# Altium integrated library Molex-DuraClik.IntLib: 28 symbols
Pins are listed as number, name and electrical type; pins without a type are passive.

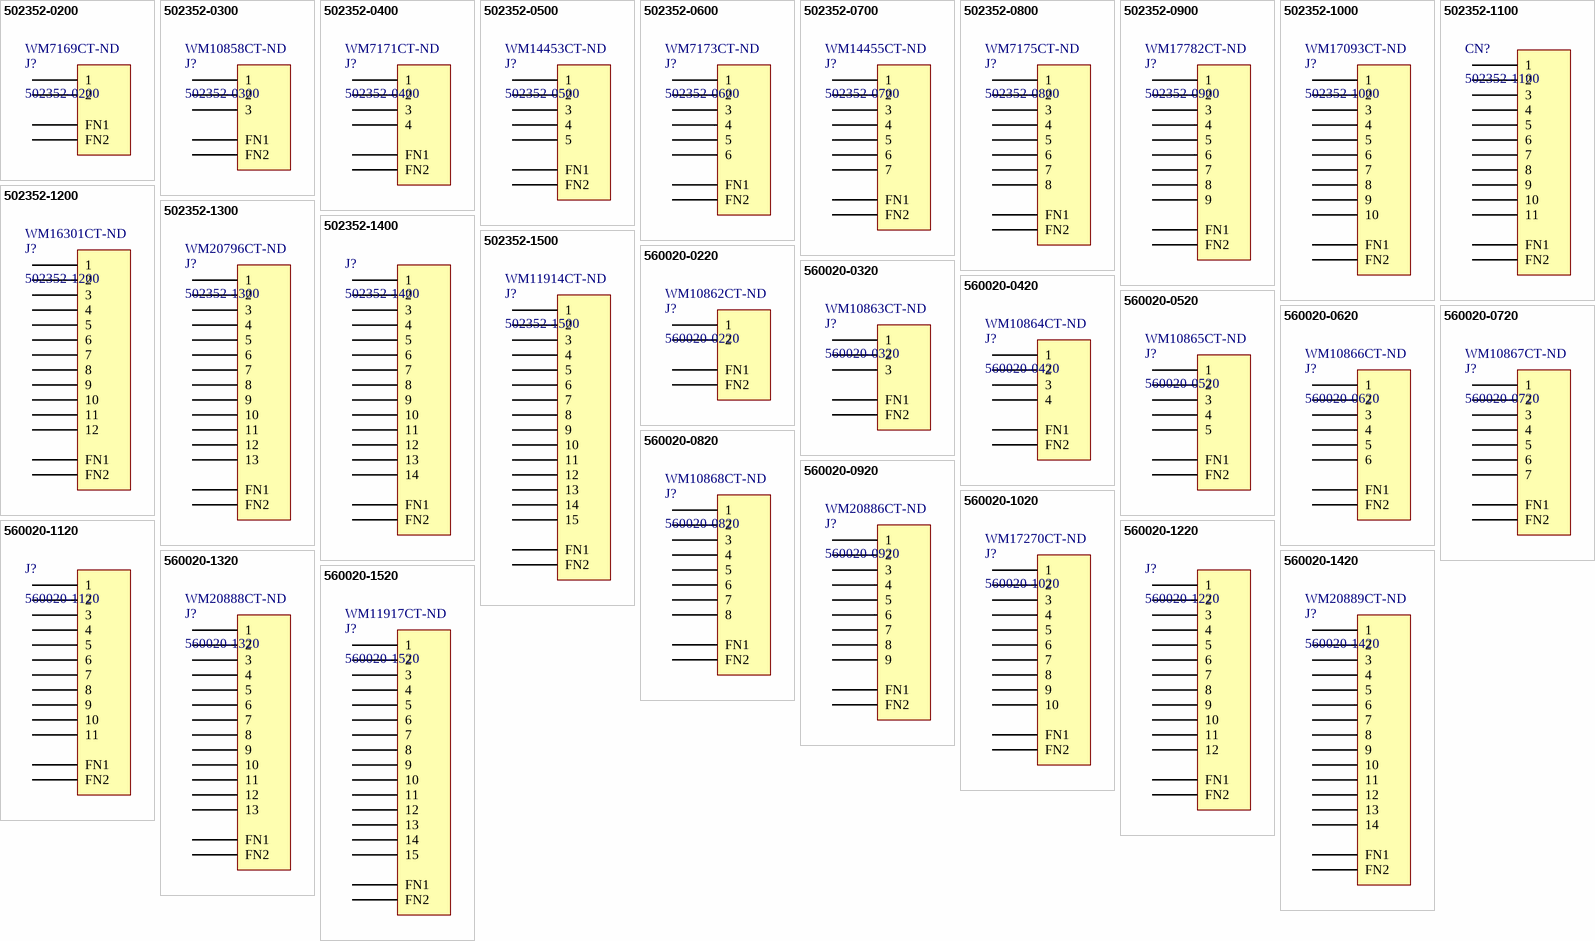
[diagram p0: symbols 502352-0200 to 560020-1520]

## 502352-0200
designator J?  Supplier Part Number 1: WM7169CT-ND
DuraClik Wire-to-Board Header, Single Row, Right-Angle, 2 Circuits, Tin (Sn) Plating, Natural; Supplier 1: Digi-Key
footprint 502352-0200
pins: 1, 2, FN1, FN2

## 502352-0300
designator J?  Supplier Part Number 1: WM10858CT-ND
DuraClik Wire-to-Board Header, Single Row, Right-Angle, 3 Circuits, Tin (Sn) Plating, Natural; Supplier 1: Digi-Key
footprint 502352-0300
pins: 1, 2, 3, FN1, FN2

## 502352-0400
designator J?  Supplier Part Number 1: WM7171CT-ND
DuraClik Wire-to-Board Header, Single Row, Right-Angle, 4 Circuits, Tin (Sn) Plating, Natural; Supplier 1: Digi-Key
footprint 502352-0400
pins: 1, 2, 3, 4, FN1, FN2

## 502352-0500
designator J?  Supplier Part Number 1: WM14453CT-ND
DuraClik Wire-to-Board Header, Single Row, Right-Angle, 5 Circuits, Tin (Sn) Plating, Natural; Supplier 1: Digi-Key
footprint 502352-0500
pins: 1, 2, 3, 4, 5, FN1, FN2

## 502352-0600
designator J?  Supplier Part Number 1: WM7173CT-ND
DuraClik Wire-to-Board Header, Single Row, Right-Angle, 6 Circuits, Tin (Sn) Plating, Natural; Supplier 1: Digi-Key
footprint 502352-0600
pins: 1, 2, 3, 4, 5, 6, FN1, FN2

## 502352-0700
designator J?  Supplier Part Number 1: WM14455CT-ND
DuraClik Wire-to-Board Header, Single Row, Right-Angle, 7 Circuits, Tin (Sn) Plating, Natural; Supplier 1: Digi-Key
footprint 502352-0700
pins: 1, 2, 3, 4, 5, 6, 7, FN1, FN2

## 502352-0800
designator J?  Supplier Part Number 1: WM7175CT-ND
DuraClik Wire-to-Board Header, Single Row, Right-Angle, 8 Circuits, Tin (Sn) Plating, Natural; Supplier 1: Digi-Key
footprint 502352-0800
pins: 1, 2, 3, 4, 5, 6, 7, 8, FN1, FN2

## 502352-0900
designator J?  Supplier Part Number 1: WM17782CT-ND
DuraClik Wire-to-Board Header, Single Row, Right-Angle, 9 Circuits, Tin (Sn) Plating, Natural; Supplier 1: Digi-Key
footprint 502352-0900
pins: 1, 2, 3, 4, 5, 6, 7, 8, 9, FN1, FN2

## 502352-1000
designator J?  Supplier Part Number 1: WM17093CT-ND
DuraClik Wire-to-Board Header, Single Row, Right-Angle, 10 Circuits, Tin (Sn) Plating, Natural; Supplier 1: Digi-Key
footprint 502352-1000
pins: 1, 2, 3, 4, 5, 6, 7, 8, 9, 10, FN1, FN2

## 502352-1100
designator CN?
DuraClik Wire-to-Board Header, Single Row, Right-Angle, 11 Circuits, Tin (Sn) Plating, Natural
footprint 502352-1100
pins: 1, 2, 3, 4, 5, 6, 7, 8, 9, 10, 11, FN1, FN2

## 502352-1200
designator J?  Supplier Part Number 1: WM16301CT-ND
DuraClik Wire-to-Board Header, Single Row, Right-Angle, 12 Circuits, Tin (Sn) Plating, Natural; Supplier 1: Digi-Key
footprint 502352-1200
pins: 1, 2, 3, 4, 5, 6, 7, 8, 9, 10, 11, 12, FN1, FN2

## 502352-1300
designator J?  Supplier Part Number 1: WM20796CT-ND
DuraClik Wire-to-Board Header, Single Row, Right-Angle, 13 Circuits, Tin (Sn) Plating, Natural; Supplier 1: Digi-Key
footprint 502352-1300
pins: 1, 2, 3, 4, 5, 6, 7, 8, 9, 10, 11, 12, 13, FN1, FN2

## 502352-1400
designator J?
DuraClik Wire-to-Board Header, Single Row, Right-Angle, 14 Circuits, Tin (Sn) Plating, Natural
footprint 502352-1400
pins: 1, 2, 3, 4, 5, 6, 7, 8, 9, 10, 11, 12, 13, 14, FN1, FN2

## 502352-1500
designator J?  Supplier Part Number 1: WM11914CT-ND
DuraClik Wire-to-Board Header, Single Row, Right-Angle, 15 Circuits, Tin (Sn) Plating, Natural; Supplier 1: Digi-Key
footprint 502352-1500
pins: 1, 2, 3, 4, 5, 6, 7, 8, 9, 10, 11, 12, 13, 14, 15, FN1, FN2

## 560020-0220
designator J?  Supplier Part Number 1: WM10862CT-ND
DuraClik Wire-to-Board Header, Single Row, Vertical, 2 Circuits, Tin (Sn) Over Nickel, Natural; Supplier 1: Digi-Key
footprint 560020-0220
pins: 1, 2, FN1, FN2

## 560020-0320
designator J?  Supplier Part Number 1: WM10863CT-ND
DuraClik Wire-to-Board Header, Single Row, Vertical, 3 Circuits, Tin (Sn) Over Nickel, Natural; Supplier 1: Digi-Key
footprint 560020-0320
pins: 1, 2, 3, FN1, FN2

## 560020-0420
designator J?  Supplier Part Number 1: WM10864CT-ND
DuraClik Wire-to-Board Header, Single Row, Vertical, 4 Circuits, Tin (Sn) Over Nickel, Natural; Supplier 1: Digi-Key
footprint 560020-0420
pins: 1, 2, 3, 4, FN1, FN2

## 560020-0520
designator J?  Supplier Part Number 1: WM10865CT-ND
DuraClik Wire-to-Board Header, Single Row, Vertical, 5 Circuits, Tin (Sn) Over Nickel, Natural; Supplier 1: Digi-Key
footprint 560020-0520
pins: 1, 2, 3, 4, 5, FN1, FN2

## 560020-0620
designator J?  Supplier Part Number 1: WM10866CT-ND
DuraClik Wire-to-Board Header, Single Row, Vertical, 6 Circuits, Tin (Sn) Over Nickel, Natural; Supplier 1: Digi-Key
footprint 560020-0620
pins: 1, 2, 3, 4, 5, 6, FN1, FN2

## 560020-0720
designator J?  Supplier Part Number 1: WM10867CT-ND
DuraClik Wire-to-Board Header, Single Row, Vertical, 7 Circuits, Tin (Sn) Over Nickel, Natural; Supplier 1: Digi-Key
footprint 560020-0720
pins: 1, 2, 3, 4, 5, 6, 7, FN1, FN2

## 560020-0820
designator J?  Supplier Part Number 1: WM10868CT-ND
DuraClik Wire-to-Board Header, Single Row, Vertical, 8 Circuits, Tin (Sn) Over Nickel, Natural; Supplier 1: Digi-Key
footprint 560020-0820
pins: 1, 2, 3, 4, 5, 6, 7, 8, FN1, FN2

## 560020-0920
designator J?  Supplier Part Number 1: WM20886CT-ND
DuraClik Wire-to-Board Header, Single Row, Vertical, 9 Circuits, Tin (Sn) Plating, Natural; Supplier 1: Digi-Key
footprint 560020-0920
pins: 1, 2, 3, 4, 5, 6, 7, 8, 9, FN1, FN2

## 560020-1020
designator J?  Supplier Part Number 1: WM17270CT-ND
DuraClik Wire-to-Board Header, Single Row, Vertical, 10 Circuits, Tin (Sn) Plating, Natural; Supplier 1: Digi-Key
footprint 560020-1020
pins: 1, 2, 3, 4, 5, 6, 7, 8, 9, 10, FN1, FN2

## 560020-1120
designator J?
DuraClik Wire-to-Board Header, Single Row, Vertical, 11 Circuits, Tin (Sn) Plating, Natural
footprint 560020-1120
pins: 1, 2, 3, 4, 5, 6, 7, 8, 9, 10, 11, FN1, FN2

## 560020-1220
designator J?
DuraClik Wire-to-Board Header, Single Row, Vertical, 12 Circuits, Tin (Sn) Plating, Natural
footprint 560020-1220
pins: 1, 2, 3, 4, 5, 6, 7, 8, 9, 10, 11, 12, FN1, FN2

## 560020-1320
designator J?  Supplier Part Number 1: WM20888CT-ND
DuraClik Wire-to-Board Header, Single Row, Vertical, 13 Circuits, Tin (Sn) Plating, Natural; Supplier 1: Digi-Key
footprint 560020-1320
pins: 1, 2, 3, 4, 5, 6, 7, 8, 9, 10, 11, 12, 13, FN1, FN2

## 560020-1420
designator J?  Supplier Part Number 1: WM20889CT-ND
DuraClik Wire-to-Board Header, Single Row, Vertical, 14 Circuits, Tin (Sn) Plating, Natural; Supplier 1: Digi-Key
footprint 560020-1420
pins: 1, 2, 3, 4, 5, 6, 7, 8, 9, 10, 11, 12, 13, 14, FN1, FN2

## 560020-1520
designator J?  Supplier Part Number 1: WM11917CT-ND
DuraClik Wire-to-Board Header, Single Row, Vertical, 15 Circuits, Tin (Sn) Plating, Natural; Supplier 1: Digi-Key
footprint 560020-1520
pins: 1, 2, 3, 4, 5, 6, 7, 8, 9, 10, 11, 12, 13, 14, 15, FN1, FN2